# Altium schematic symbol library SMAJ58CA.SchLib: 1 symbol
Pins are listed as number, name and electrical type; pins without a type are passive.

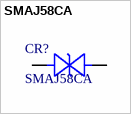
[diagram p0: symbol SMAJ58CA]

## SMAJ58CA
designator CR?
No Description Available; Manufacturer_Name: Littelfuse Inc; Copyright: Copyright (C) 2026 Ultra Librarian. All rights reserved.; Manufacturer_Part_Number: SMAJ58CA
footprint SMASeries_LTF
pins: 1, 2